# Altium schematic symbol library Effects_PSU.SchLib: 3 symbols
Pins are listed as number, name and electrical type; pins without a type are passive.

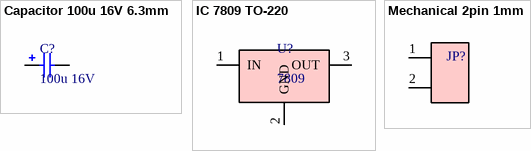
[diagram p0: symbols Capacitor 100u 16V 6.3mm to Mechanical 2pin 1mm]

## Capacitor 100u 16V 6.3mm
designator C?, comment 100u 16V
footprint Capacitor 6.3mm
pins: 1, 2

## IC 7809 TO-220
designator U?, comment 7809
footprint 78xx
pins: 1 IN, 2 GND, 3 OUT

## Mechanical 2pin 1mm
designator JP?  (value not drawn)
footprint 2 PIN
pins: 1, 2